# EAGLE library part XR-T2713 (library exar)
LOOPBACK DETECTOR
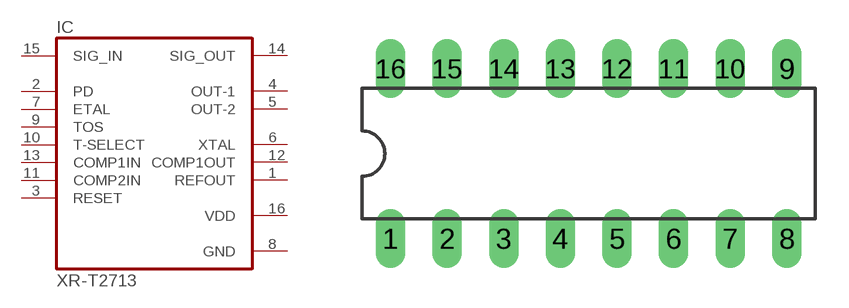
[diagram p28: symbol with the pads of DIL16; footprint DIL16]

Designator prefix IC

## XR-T2713  [DIL16]
1  REFOUT  out
2  PD  in
3  RESET  in
4  OUT-1  out
5  OUT-2  out
6  XTAL  out
7  ETAL  in
8  GND  pwr
9  TOS  in
10  T-SELECT  in
11  COMP2IN  in
12  COMP1OUT  out
13  COMP1IN  in
14  SIG_OUT  out
15  SIG_IN  in
16  VDD  pwr

## Footprint DIL16 (pad centres in mm)
Dual In Line Package
drill 0.813 long: 1 -8.89,-3.81; 2 -6.35,-3.81; 3 -3.81,-3.81; 4 -1.27,-3.81; 5 1.27,-3.81; 6 3.81,-3.81; 7 6.35,-3.81; 8 8.89,-3.81; 9 8.89,3.81; 10 6.35,3.81; 11 3.81,3.81; 12 1.27,3.81; 13 -1.27,3.81; 14 -3.81,3.81; 15 -6.35,3.81; 16 -8.89,3.81